# EAGLE library part NCV7356 (library comma.ai)
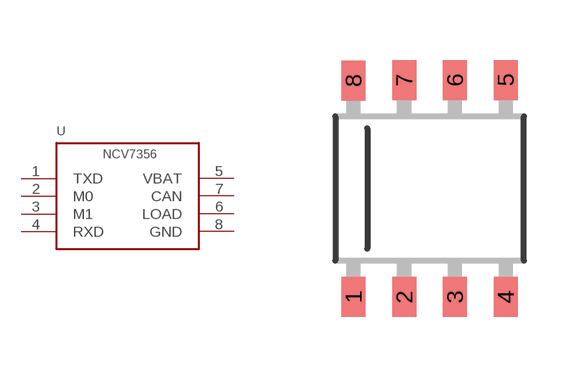
[diagram p23: symbol with the pads of SOIC8; footprint SOIC8]

Designator prefix U

## NCV7356SOIC8  [SOIC8]
1  TXD
2  M0
3  M1
4  RXD
5  VBAT
6  LOAD
7  CAN
8  GND

## Footprint SOIC8 (pad centres in mm)
smd 0.6 x 1: 1 -1.905,-2.716; 2 -0.635,-2.716; 3 0.635,-2.716; 4 1.905,-2.716; 5 1.905,2.716; 6 0.635,2.716; 7 -0.635,2.716; 8 -1.905,2.7